# EAGLE library part MCP41HVX1 (library microchip-mcp41hvx1)
The MCP45HVX1 family of devices have dual power rails (analog and digital). The analog power rail allows high voltage on the resistor network terminal pins. The analog voltage range is determined by the V+ and V– voltages. The library has been designed by Richard Magdycz <https://www.facebook.com/groups/eaglecadsoftUK>
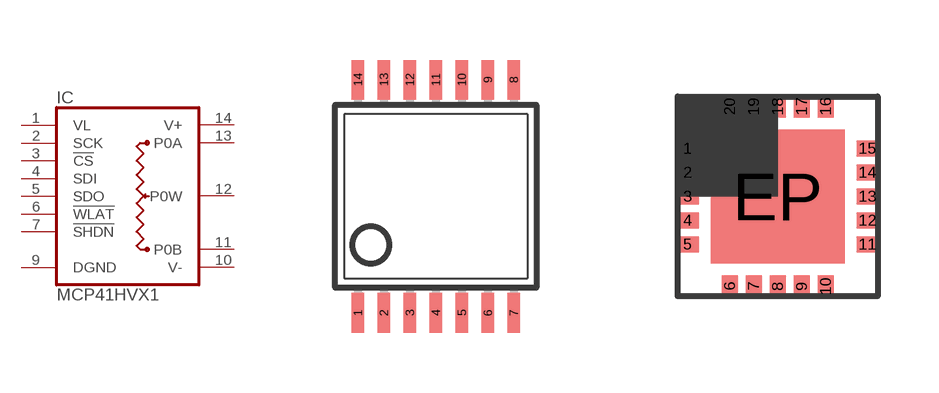
[diagram p0: symbol with the pads of TSSOP14; footprints TSSOP14, QFN20-MQ]

Designator prefix IC

## MCP41HVX1ST  [TSSOP14]
1  VL  pwr
2  SCK
3  !CS
4  SDI
5  SDO
6  !WLAT
7  !SHDN
9  DGND  pwr
10  V-  pwr
11  P0B  pas
12  P0W  pas
13  P0A  pas
14  V+  pwr

## MCP41HVX1MQ  [QFN20-MQ]
1  VL  pwr
2  SCK
3  SDO
4  !CS
5  SDI
6  !WLAT
7  !SHDN
11  DGND  pwr
12  V-  pwr
13  P0B  pas
14  P0W  pas
15  P0A  pas
16  V+  pwr

## Footprint TSSOP14 (pad centres in mm)
Thin Shrink Small Outline Plastic 14 MAX3223-MAX3243.pdf
smd 0.305 x 0.991: 1 -1.95,-2.918; 2 -1.3,-2.918; 3 -0.65,-2.918; 4 0,-2.918; 5 0.65,-2.918; 6 1.3,-2.918; 7 1.95,-2.918; 8 1.95,2.918; 9 1.3,2.918; 10 0.65,2.918; 11 0,2.918; 12 -0.65,2.918; 13 -1.3,2.918; 14 -1.95,2.918

## Footprint QFN20-MQ (pad centres in mm)
20-Lead Plastic Quad Flat, No Lead Package(MQ) – 5x5x0.9 mm Body [QFN] EP is Exposed Pad
smd 0.55 x 0.4: 1 -2.25,1.2; 2 -2.25,0.6; 3 -2.25,0; 4 -2.25,-0.6; 5 -2.25,-1.2; 11 2.25,-1.2; 12 2.25,-0.6; 13 2.25,0; 14 2.25,0.6; 15 2.25,1.2
smd 0.4 x 0.55: 6 -1.2,-2.25; 7 -0.6,-2.25; 8 0,-2.25; 9 0.6,-2.25; 10 1.2,-2.25; 16 1.2,2.25; 17 0.6,2.25; 18 0,2.25; 19 -0.6,2.25; 20 -1.2,2.25
smd 3.35 x 3.35: EP 0,0